# Altium footprint library R82EC2220DQ50J.PcbLib: 1 footprints
Each footprint in its own frame and in the unit in brackets; x right, y up, seen from the top. Pads: shape width x height; smd on the part's side, far side on the other; paste and mask are expansions set on the pad; w line width, h text height; cw(c..) or ccw(c..) is an arc to the next point about the centre after c.
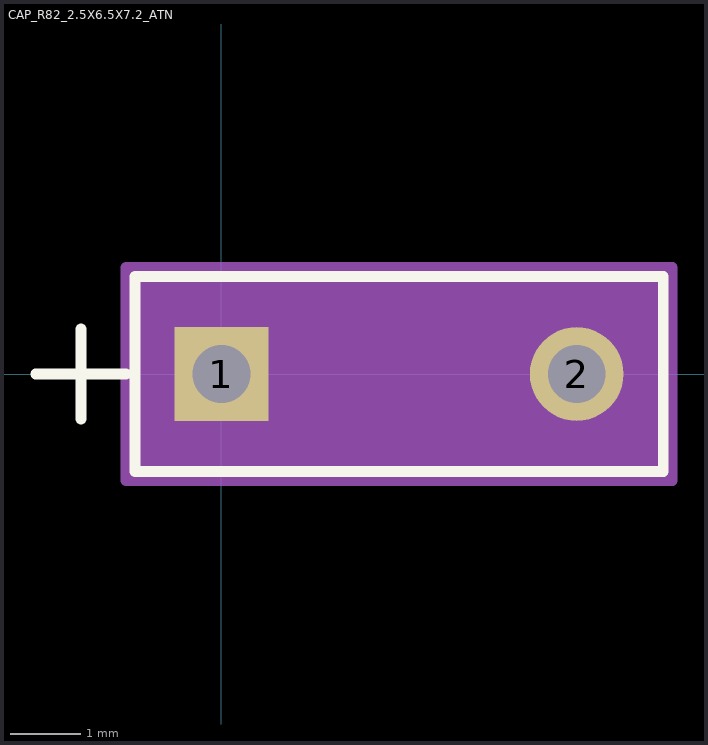
[diagram p0: the footprint, top view; thin cyan lines are the x and y axes]

## CAP_R82_2.5X6.5X7.2_ATN [mil]
pads (2):
  rect 52x52 / inner round 60 / far side rect 52x52 hole 32 paste-26 mask+0: 1(0,0)
  round 52 / inner round 60 / far side round 52 hole 32 paste-26 mask+0: 2(197,0)
Top Overlay:
  lines w6: -103,0 -53,0 ; -78,-25 -78,25 ; -48,-54 245,-54 245,54 -48,54 -48,-54
Mechanical 13:
  lines w1: -103,0 -53,0 ; -78,-25 -78,25 ; -43,-49 240,-49 240,49 -43,49 -43,-49
Mechanical 15:
  region: 250,-59 -53,-59 -53,59 250,59
  lines w6: -53,-59 -53,59 250,59 250,-59 -53,-59
3D body "CAP_R82_25X65X72_ATN.step": height 255.98, standoff -165.98, extent -54.02,-49.02 229.02,49.02